# Altium footprint library RP2040_PcbLib.PcbLib: 12 footprints
Each footprint in its own frame and in the unit in brackets; x right, y up, seen from the top. Pads: shape width x height; smd on the part's side, far side on the other; paste and mask are expansions set on the pad; w line width, h text height; cw(c..) or ccw(c..) is an arc to the next point about the centre after c.
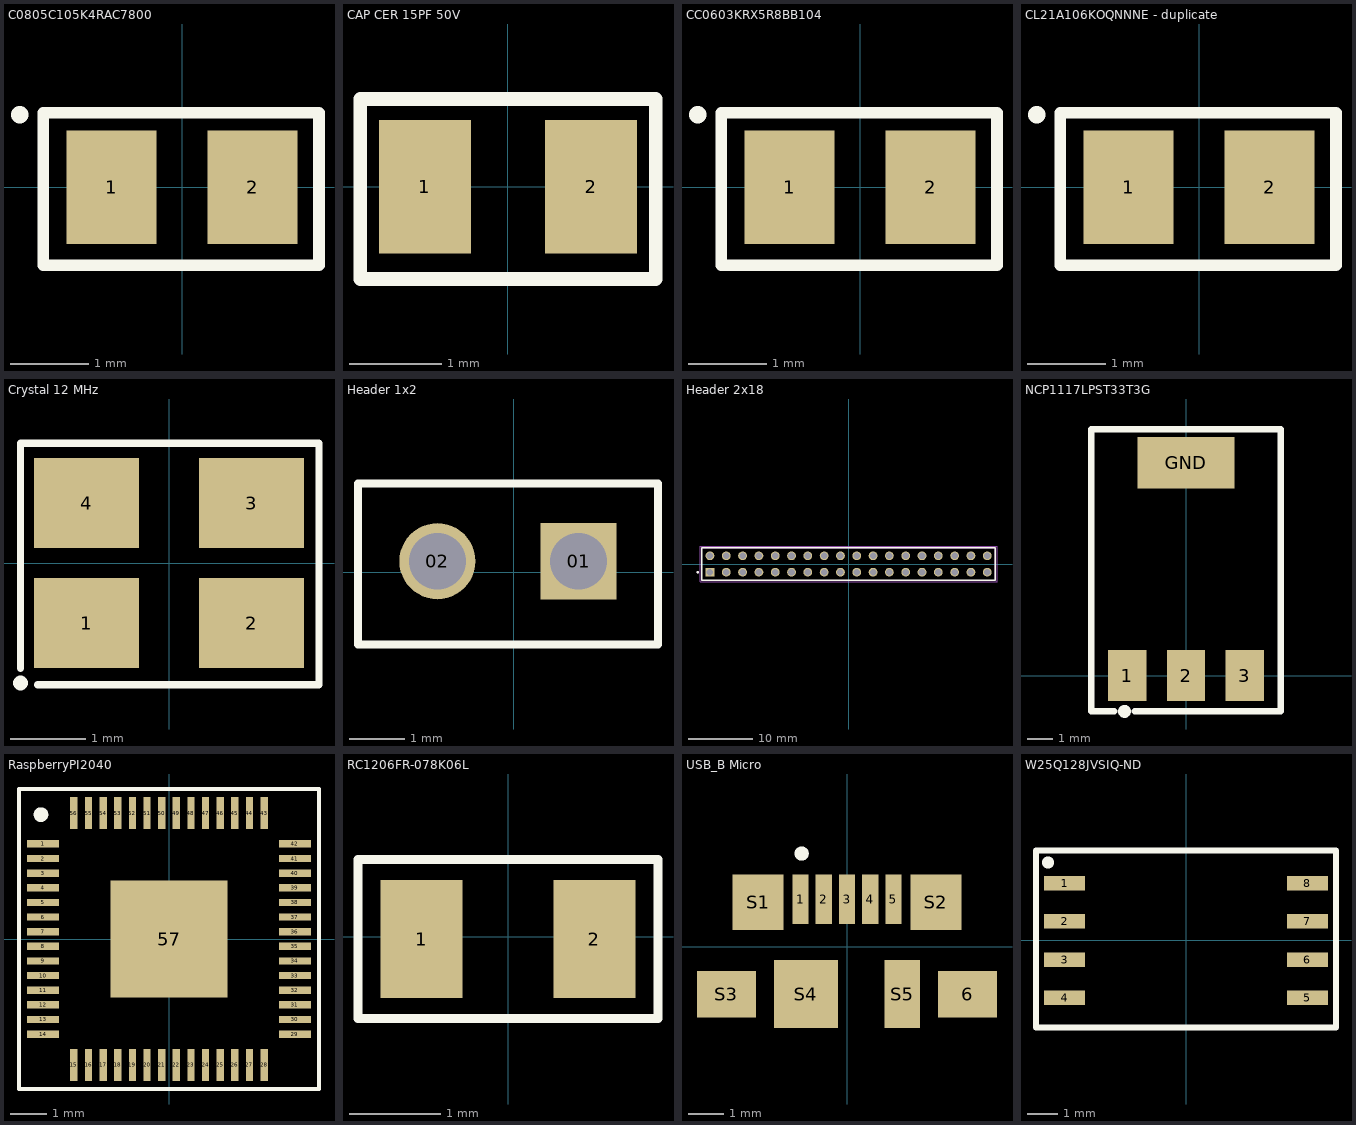
[diagram p0: the footprints below, top view; thin cyan lines are the x and y axes]

## C0805C105K4RAC7800 [mm] "1 µF ±10% 16V Ceramic Capacitor X7R 0805 (2012 Metric)"
pads (2):
  rect 1.15x1.45 smd: 1(-0.9,0) 2(0.9,0)
Top Overlay:
  circle w0.2: c-2.075,0.925 r0.01
  lines w0.15: 1.725,-1 -1.775,-1 -1.775,0.95 1.725,0.95 ; 1.75,-1 1.75,0.95
3D body "CCS_CCSTD_0805_L2.2W1.45T0.88B0.5.step": height 0.86, standoff -0.02, extent -1.2,-0.75 1,0.7

## CAP CER 15PF 50V [mm] "15 pF ±5% 50V Ceramic Capacitor C0G, NP0 0805 (2012 Metric) (https://www.digikey.com/en/products/detail/yageo/CC0805JRNPO9BN150/302835)"
pads (2):
  rect 1x1.45 smd: 1(-0.9,0) 2(0.9,0)
Top Overlay:
  lines w0.15: -1.6,-1 -1.6,0.95 1.6,0.95 1.6,-1 -1.6,-1
3D body "CC0805JRNPO9BN150.step": height 0.69, standoff -0.01, extent -1,-0.625 1,0.625

## CC0603KRX5R8BB104 [mm] "100 nF ±10% 16V Ceramic Capacitor X5R 0805 (2012 Metric)"
pads (2):
  rect 1.15x1.45 smd: 1(-0.9,0) 2(0.9,0)
Top Overlay:
  circle w0.2: c-2.075,0.925 r0.01
  lines w0.15: 1.725,-1 -1.775,-1 -1.775,0.95 1.725,0.95 ; 1.75,-1 1.75,0.95
3D body "CAP_CL21_SAM.step": height 1.35, standoff 0, extent -1.025,-0.625 0.975,0.625

## CL21A106KOQNNNE - duplicate [mm] "10 µF ±10% 16V Ceramic Capacitor X5R 0805 (2012 Metric)"
pads (2):
  rect 1.15x1.45 smd: 1(-0.9,0) 2(0.9,0)
Top Overlay:
  circle w0.2: c-2.075,0.925 r0.01
  lines w0.15: 1.725,-1 -1.775,-1 -1.775,0.95 1.725,0.95 ; 1.75,-1 1.75,0.95
3D body "CAP_CL21_SAM.step": height 1.35, standoff 0, extent -1.025,-0.625 0.975,0.625

## Crystal 12 MHz [mm] "12 MHz ±30ppm Crystal 18pF 150 Ohms 4-SMD, No Lead"
pads (4):
  rect 1.4x1.2 smd: 1(-1.1,-0.8) 2(1.1,-0.8) 3(1.1,0.8) 4(-1.1,0.8)
Top Overlay:
  lines w0.1: -1.981,-1.4 -1.981,1.6 2,1.6 2,-1.1 2,-1.626 -1.753,-1.626
  lines w0.2: -1.981,-1.6 ccw(c-1.991,-1.6) -1.981,-1.6
3D body "XTAL_403C35D12M00000_CTS.step": height 0.76, standoff 0, extent -1.651,-1.321 1.651,1.321

## Header 1x2 [mm]
pads (2):
  rect 1.37x1.37 hole 1.02: 01(1.17,0.2)
  round 1.37 hole 1.02: 02(-1.37,0.2)
Top Overlay:
  lines w0.15: -2.8,-1.3 -2.8,1.6 2.6,1.6 2.6,-1.3 -2.8,-1.3
3D body "Header, Male, 2.54mm, 1x2.STEP": height 8.54, standoff -3, extent -2.64,-1.1 2.44,1.44

## Header 2x18 [mm]
pads (36):
  rect 1.37x1.37 hole 1.02: 01(-21.59,-1.27)
  round 1.37 hole 1.02: 02(-21.59,1.27) 03(-19.05,-1.27) 04(-19.05,1.27) 05(-16.51,-1.27) 06(-16.51,1.27) 07(-13.97,-1.27) 08(-13.97,1.27) 09(-11.43,-1.27) 10(-11.43,1.27) 11(-8.89,-1.27) 12(-8.89,1.27) 13(-6.35,-1.27) 14(-6.35,1.27) 15(-3.81,-1.27) 16(-3.81,1.27) 17(-1.27,-1.27) 18(-1.27,1.27) 19(1.27,-1.27) 20(1.27,1.27) 21(3.81,-1.27) 22(3.81,1.27) 23(6.35,-1.27) 24(6.35,1.27) 25(8.89,-1.27) 26(8.89,1.27) 27(11.43,-1.27) 28(11.43,1.27) 29(13.97,-1.27) 30(13.97,1.27) 31(16.51,-1.27) 32(16.51,1.27) 33(19.05,-1.27) 34(19.05,1.27) 35(21.59,-1.27) 36(21.59,1.27)
Top Overlay:
  circle w0.2: c-23.51,-1.27 r0.1
  lines w0.2: -22.86,-2.54 22.86,-2.54 22.86,2.54 -22.86,2.54 -22.86,-2.54
Mechanical 13:
  circle w0.2: c-23.51,-1.27 r0.1
  lines w0.1: -22.86,-2.54 22.86,-2.54 22.86,2.54 -22.86,2.54 -22.86,-2.54
Mechanical 15:
  lines w0.05: -23.11,-2.79 23.11,-2.79 23.11,2.79 -23.11,2.79 -23.11,-2.79
3D body "Header_2x18.stp": height 7.57, standoff -3.35, extent -22.86,-2.54 22.86,2.54

## NCP1117LPST33T3G [mm] "https://www.digikey.com/en/products/detail/onsemi/NCP1117LPST33T3G/2194024"
pads (4):
  rect 1.5x2 smd: 1(-2.3,0) 2(0,0) 3(2.3,0)
  rect 3.8x2 smd: GND(0,8.3)
Top Overlay:
  circle w0.3: c-2.4,-1.4 r0.1
  lines w0.254: -2.8,-1.4 -3.7,-1.4 -3.7,9.6 3.7,9.6 3.7,-1.4 2.2,-1.4 -0.8,-1.4 -2,-1.4
3D body "NCP1117LPST33T3G.step": height 1.73, standoff 0, extent -3.34,0.555 3.34,7.845

## RaspberryPI2040 [mm] "Design From Datasheet  Page 612 and all Dimensions in mm"
pads (57):
  rect 0.875x0.2 smd mask-2539.97: 1(-3.437,2.6) 2(-3.437,2.2) 3(-3.437,1.8) 4(-3.437,1.4) 5(-3.437,1) 6(-3.437,0.6) 7(-3.437,0.2) 8(-3.437,-0.2) 9(-3.437,-0.6) 10(-3.437,-1) 11(-3.437,-1.4) 12(-3.437,-1.8) 13(-3.437,-2.2) 14(-3.437,-2.6) 29(3.438,-2.6) 30(3.438,-2.2) 31(3.438,-1.8) 32(3.438,-1.4) 33(3.438,-1) 34(3.438,-0.6) 35(3.438,-0.2) 36(3.438,0.2) 37(3.438,0.6) 38(3.438,1) 39(3.438,1.4) 40(3.438,1.8) 41(3.438,2.2) 42(3.438,2.6)
  rect 0.2x0.875 smd mask-2539.97: 15(-2.6,-3.437) 16(-2.2,-3.437) 17(-1.8,-3.437) 18(-1.4,-3.437) 19(-1,-3.437) 20(-0.6,-3.437) 21(-0.2,-3.437) 22(0.2,-3.437) 23(0.6,-3.437) 24(1,-3.437) 25(1.4,-3.437) 26(1.8,-3.437) 27(2.2,-3.437) 28(2.6,-3.437) 43(2.6,3.438) 44(2.2,3.438) 45(1.8,3.438) 46(1.4,3.438) 47(1,3.438) 48(0.6,3.438) 49(0.2,3.438) 50(-0.2,3.438) 51(-0.6,3.438) 52(-1,3.438) 53(-1.4,3.438) 54(-1.8,3.438) 55(-2.2,3.438) 56(-2.6,3.438)
  rect 3.2x3.2 smd mask-2539.97: 57(0,0)
Top Overlay:
  circle w0.2: c-3.5,3.4 r0.1
  lines w0.1: -4.1,-4.1 4.1,-4.1 4.1,4.1 -4.1,4.1 -4.1,-4.1
Top Solder:
  drawing of 57 lines, arcs and shapes, not listed
3D body "IC57_RP2040.step": height 0.89, standoff 0, extent -3.505,-3.505 3.505,3.505

## RC1206FR-078K06L [mm] "8.06 kOhms ±1% 0.25W, 1/4W Chip Resistor 1206 (3216 Metric) Moisture Resistant Thick Film"
pads (2):
  rect 0.9x1.3 smd: 1(-0.95,-0.025) 2(0.95,-0.025)
Top Overlay:
  lines w0.1: -1.65,-0.9 -1.65,0.85 1.65,0.85 1.65,-0.9 -1.65,-0.9
3D body "STA_RMCF0805_STP.step": height 0.66, standoff 0, extent -1.105,-0.698 1.105,0.648

## USB_B Micro [mm] "Conn Data USB Micro B w/Flange SMT Bottom Mnt LF"
pads (11):
  rect 0.45x1.38 smd: 1(-1.3,1.33) 2(-0.65,1.33) 3(0,1.33) 4(0.65,1.33) 5(1.3,1.33)
  rect 1.65x1.3 smd: 6(3.375,-1.33) S3(-3.375,-1.33)
  rect 1.425x1.55 smd: S1(-2.488,1.245) S2(2.488,1.245)
  rect 1.8x1.9 smd: S4(-1.15,-1.33)
  rect 1x1.9 smd: S5(1.55,-1.33)
Top Overlay:
  circle w0.2: c-1.27,2.607 r0.1
3D body "USB_bMicro.STEP": height 2.71, standoff -0.23, extent -4.18,-3.83 4.18,1.6

## W25Q128JVSIQ-ND [mm] "FLASH - NOR Memory IC 128Mbit SPI - Quad I/O, QPI 133 MHz 8-SOIC"
pads (8):
  rect 1.36x0.48 smd: 1(-4.05,1.913) 2(-4.05,0.638) 3(-4.05,-0.637) 4(-4.05,-1.913) 5(4.05,-1.913) 6(4.05,-0.637) 7(4.05,0.638) 8(4.05,1.913)
Top Overlay:
  circle w0.2: c-4.6,2.6 r0.1
  lines w0.2: -5,-2.9 5,-2.9 5,3 -5,3 -5,-2.9
3D body "W25Q128JVSIQ.step": height 2.16, standoff 0, extent -4.051,-2.667 4.051,2.667